# EAGLE library part B28B-PHDSS (library con-jst-phd)
JST PHD series header 2.00mm pitch disconnectable crimp style connectors, vertical (side entry type), 28 pins
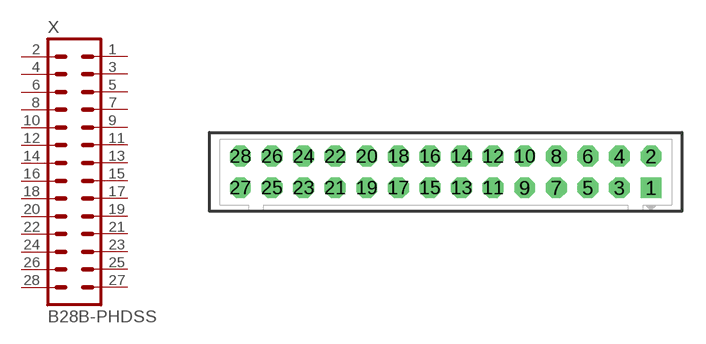
[diagram p10: symbol with the pads of B28B-PHDSS; footprint B28B-PHDSS]

Designator prefix X

## B28B-PHDSS  [B28B-PHDSS]
1  1  pas
2  2  pas
3  3  pas
4  4  pas
5  5  pas
6  6  pas
7  7  pas
8  8  pas
9  9  pas
10  10  pas
11  11  pas
12  12  pas
13  13  pas
14  14  pas
15  15  pas
16  16  pas
17  17  pas
18  18  pas
19  19  pas
20  20  pas
21  21  pas
22  22  pas
23  23  pas
24  24  pas
25  25  pas
26  26  pas
27  27  pas
28  28  pas

## B28B-PHDSS-B  [B28B-PHDSS]
Pads as for B28B-PHDSS

## Footprint B28B-PHDSS (pad centres in mm)
JST PHD series header 2.00mm pitch disconnectable crimp style connectors, through-hole vertical (top entry type), 28 pins
drill 0.7 pad 1.321 square: 1 13,-1
drill 0.7 pad 1.321 octagon: 2 13,1; 3 11,-1; 4 11,1; 5 9,-1; 6 9,1; 7 7,-1; 8 7,1; 9 5,-1; 10 5,1; 11 3,-1; 12 3,1; 13 1,-1; 14 1,1; 15 -1,-1; 16 -1,1; 17 -3,-1; 18 -3,1; 19 -5,-1; 20 -5,1; 21 -7,-1; 22 -7,1; 23 -9,-1; 24 -9,1; 25 -11,-1; 26 -11,1; 27 -13,-1; 28 -13,1